# Altium footprint library 1N4148.PcbLib: 8 footprints
Each footprint in its own frame and in the unit in brackets; x right, y up, seen from the top. Pads: shape width x height; smd on the part's side, far side on the other; paste and mask are expansions set on the pad; w line width, h text height; cw(c..) or ccw(c..) is an arc to the next point about the centre after c.
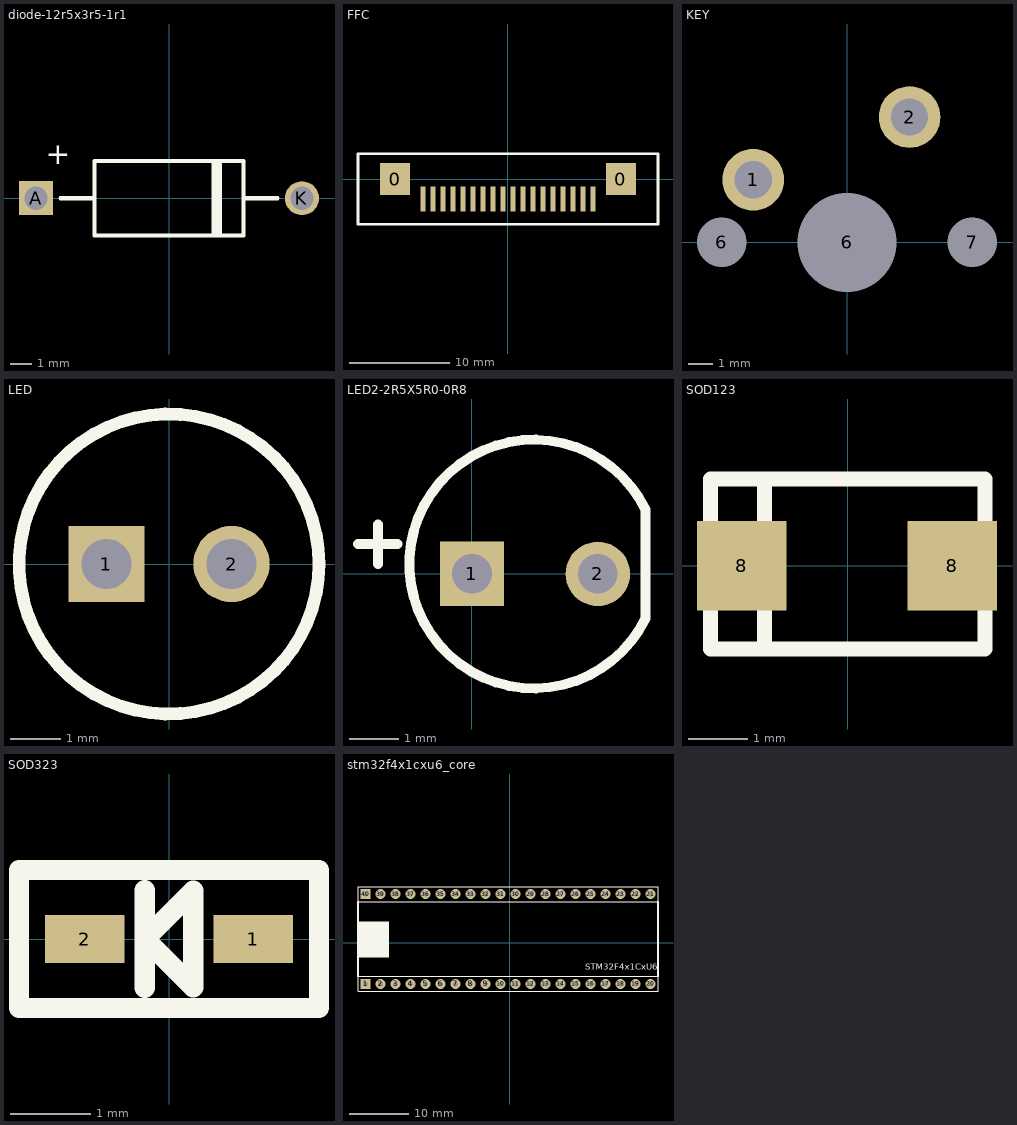
[diagram p0: the footprints below, top view; thin cyan lines are the x and y axes]

## diode-12r5x3r5-1r1 [mm]
pads (2):
  rect 1.6x1.6 hole 1.1: A(-6.25,0)
  round 1.6 hole 1.1: K(6.25,0)
Top Overlay:
  lines w0.2: -5.1,0 -3.6,0 ; 2.1,-1.7 2.1,1.7 ; 2.2,-1.7 2.2,1.7 ; 2.3,-1.7 2.3,1.7 ; 2.4,-1.7 2.4,1.7 ; 3.6,0 5.1,0 ; -3.5,-1.75 3.5,-1.75 3.5,1.75 -3.5,1.75 -3.5,-1.75
  text "+" at -5.8,1.6 h1.02

## FFC [mm]
pads (20):
  rect 3x3.2 smd: 0(-11.3,0) 0(11.3,0)
  rect 0.5x2.5 smd: 1(8.5,-2) 2(7.5,-2) 3(6.5,-2) 4(5.5,-2) 5(4.5,-2) 6(3.5,-2) 7(2.5,-2) 8(1.5,-2) 9(0.5,-2) 10(-0.5,-2) 11(-1.5,-2) 12(-2.5,-2) 13(-3.5,-2) 14(-4.5,-2) 15(-5.5,-2) 16(-6.5,-2) 17(-7.5,-2) 18(-8.5,-2)
Top Overlay:
  lines w0.254: -15,-4.5 -15,2.521 15,2.521 15,-4.5 -15,-4.5

## KEY [mm]
pads (5):
  round 2.5 hole 1.5: 1(-3.8,2.54) 2(2.54,5.08)
  round 1.524 hole 2 unplated: 6(-5.08,0) 7(5.08,0)
  round 1.524 hole 4 unplated: 6(0,0)

## LED [mm]
pads (2):
  rect 1.524x1.524 hole 1: 1(-1.25,0)
  round 1.524 hole 1: 2(1.25,0)
Top Overlay:
  circle w0.254: c0,0 r3

## LED2-2R5X5R0-0R8 [mm]
pads (2):
  rect 1.3x1.3 / inner round 1.3 / far side rect 1.3x1.3 hole 0.8: 1(0.004,-0.005)
  round 1.3 hole 0.8: 2(2.544,-0.005)
Top Overlay:
  lines w0.2: -2.296,0.595 -1.496,0.595 ; -1.896,0.195 -1.896,0.995 ; 3.504,-0.905 cw(c1.249,0.195) 3.504,1.294 3.504,-0.905

## SOD123 [mm]
pads (2):
  rect 1.5x1.5 smd: 8(-1.778,0) 8(1.75,0)
Top Overlay:
  lines w0.254: -1.397,-1.397 -1.397,1.397 ; -2.3,-1.397 2.3,-1.397 2.3,1.45 -2.3,1.45 -2.3,-1.397
3D body "SW3dPS-DO-214AC SMA.STEP": height 2.53, standoff 0.12, extent -2.6,-1.27 2.6,1.33

## SOD323 [mm]
pads (2):
  rect 1x0.6 smd: 1(1.055,0) 2(-1.055,0)
Top Overlay:
  lines w0.254: -0.305,-0.61 -0.305,0.61 ; -0.254,-0.046 0.305,-0.604 0.305,0.604 -0.254,0.046 ; -1.88,-0.864 1.88,-0.864 1.88,0.864 -1.88,0.864 -1.88,-0.864
3D body "SOD-323.STEP": height 1, standoff 0, extent -1.3,-0.65 1.3,0.65

## stm32f4x1cxu6_core [mm]
pads (40):
  rect 1.7x1.7 hole 0.9: 1(-24.384,-6.985) 40(-24.384,8.23)
  round 1.7 hole 0.9: 2(-21.844,-6.985) 3(-19.304,-6.985) 4(-16.764,-6.985) 5(-14.224,-6.985) 6(-11.684,-6.985) 7(-9.144,-6.985) 8(-6.604,-6.985) 9(-4.064,-6.985) 10(-1.524,-6.985) 11(1.016,-6.985) 12(3.556,-6.985) 13(6.096,-6.985) 14(8.636,-6.985) 15(11.176,-6.985) 16(13.716,-6.985) 17(16.256,-6.985) 18(18.796,-6.985) 19(21.336,-6.985) 20(23.876,-6.985) 21(23.876,8.23) 22(21.336,8.23) 23(18.796,8.23) 24(16.256,8.23) 25(13.716,8.23) 26(11.176,8.23) 27(8.636,8.23) 28(6.096,8.23) 29(3.556,8.23) 30(1.016,8.23) 31(-1.524,8.23) 32(-4.064,8.23) 33(-6.604,8.23) 34(-9.144,8.23) 35(-11.684,8.23) 36(-14.224,8.23) 37(-16.764,8.23) 38(-19.304,8.23) 39(-21.844,8.23)
Top Overlay:
  rectangle: -25.654,-2.54 -20.447,3.556
  lines w0.2: -25.654,-8.255 25.146,-8.255 25.146,-5.715 -23.749,-5.715 -25.654,-5.715 -25.654,-8.255 ; -25.654,6.96 25.146,6.96 25.146,9.5 -23.749,9.5 -25.654,9.5 -25.654,6.96
  lines w0.3: -25.654,-5.715 -25.654,6.96 ; 25.146,-5.715 25.146,6.96
  text "STM32F4x1CxU6" at 12.827,-4.953 h1.78